# EAGLE library part LM5114 (library 2018)
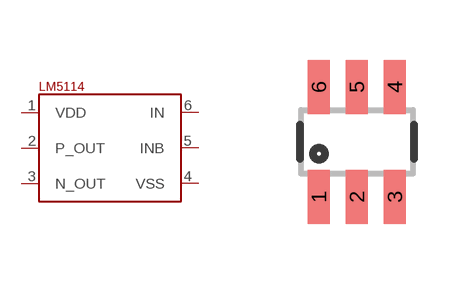
[diagram p3: symbol with the pads of SOT23-6; footprint SOT23-6]

Designator prefix -

## LM5114  [SOT23-6]
1  VDD
2  P_OUT
3  N_OUT
4  VSS
5  INB
6  IN

## Footprint SOT23-6 (pad centres in mm)
smd 0.55 x 1.35: 1 -0.95,-1.375; 2 0,-1.375; 3 0.95,-1.375; 4 0.95,1.375; 5 0,1.375; 6 -0.95,1.375